# Altium footprint library Crystals.PcbLib: 2 footprints
Each footprint in its own frame and in the unit in brackets; x right, y up, seen from the top. Pads: shape width x height; smd on the part's side, far side on the other; paste and mask are expansions set on the pad; w line width, h text height; cw(c..) or ccw(c..) is an arc to the next point about the centre after c.
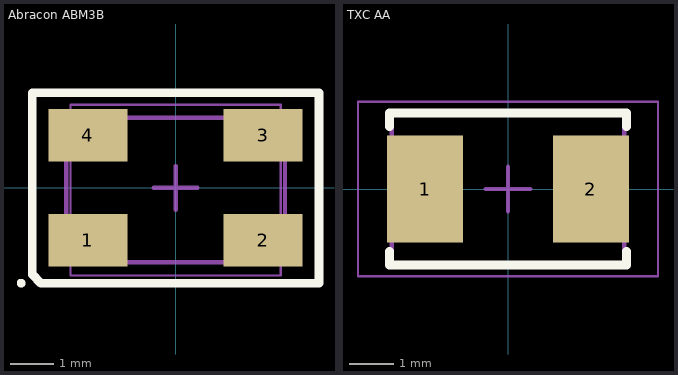
[diagram p0: the footprints below, top view; thin cyan lines are the x and y axes]

## Abracon ABM3B [mm] "Crystal, 4-Leads, Body 2.50x3.20mm, Pitch 2.20mm, IPC Medium Density"
height 1
pads (4):
  rect 1.8x1.2 smd: 1(-2,-1.2) 2(2,-1.2) 3(2,1.2) 4(-2,1.2)
Top Overlay:
  circle w0.1: c-3.525,-2.175 r0.05
  lines w0.2: -3.275,-1.975 -3.075,-2.175 3.275,-2.175 3.275,2.175 -3.275,2.175 -3.275,-1.975
Mechanical 13:
  lines w0.1: -2.5,-1.7 2.5,-1.7 2.5,1.6 -2.5,1.6 -2.5,-1.7
Mechanical 15:
  lines w0.05: -2.4,-2 2.4,-2 2.4,1.9 -2.4,1.9 -2.4,-2
  lines w0.1: -0.5,0 0.5,0 ; 0,-0.5 0,0.5
3D body "Abracon ABM3B.STEP": height 1.15, standoff 0.05, extent -2.5,-1.6 2.5,1.6

## TXC AA [mm] "Crystal, 2-Leads, Body 5.00x3.20mm, IPC Medium Density"
height 1.3
pads (2):
  rect 1.7x2.4 smd: 1(-1.85,0) 2(1.85,0)
Top Overlay:
  lines w0.2: -2.65,-1.4 -2.65,-1.7 2.65,-1.7 2.65,-1.4 ; -2.65,1.4 -2.65,1.7 2.65,1.7 2.65,1.4
Mechanical 13:
  lines w0.1: -2.6,-1.7 -2.6,1.7 2.6,1.7 2.6,-1.7 -2.6,-1.7
Mechanical 15:
  lines w0.05: -3.35,-1.95 -3.35,1.95 3.35,1.95 3.35,-1.95 -3.35,-1.95
  lines w0.1: -0.5,0 0.5,0 ; 0,-0.5 0,0.5
3D body "NDK NX5032GA.STEP": height 1.2, standoff 0, extent -2.5,-1.6 2.5,1.6